# Altium footprint library TI - ADC.PcbLib: 213 footprints (part 5 of 14)
Each footprint in its own frame and in the unit in brackets; x right, y up, seen from the top. Pads: shape width x height; smd on the part's side, far side on the other; paste and mask are expansions set on the pad; w line width, h text height; cw(c..) or ccw(c..) is an arc to the next point about the centre after c.
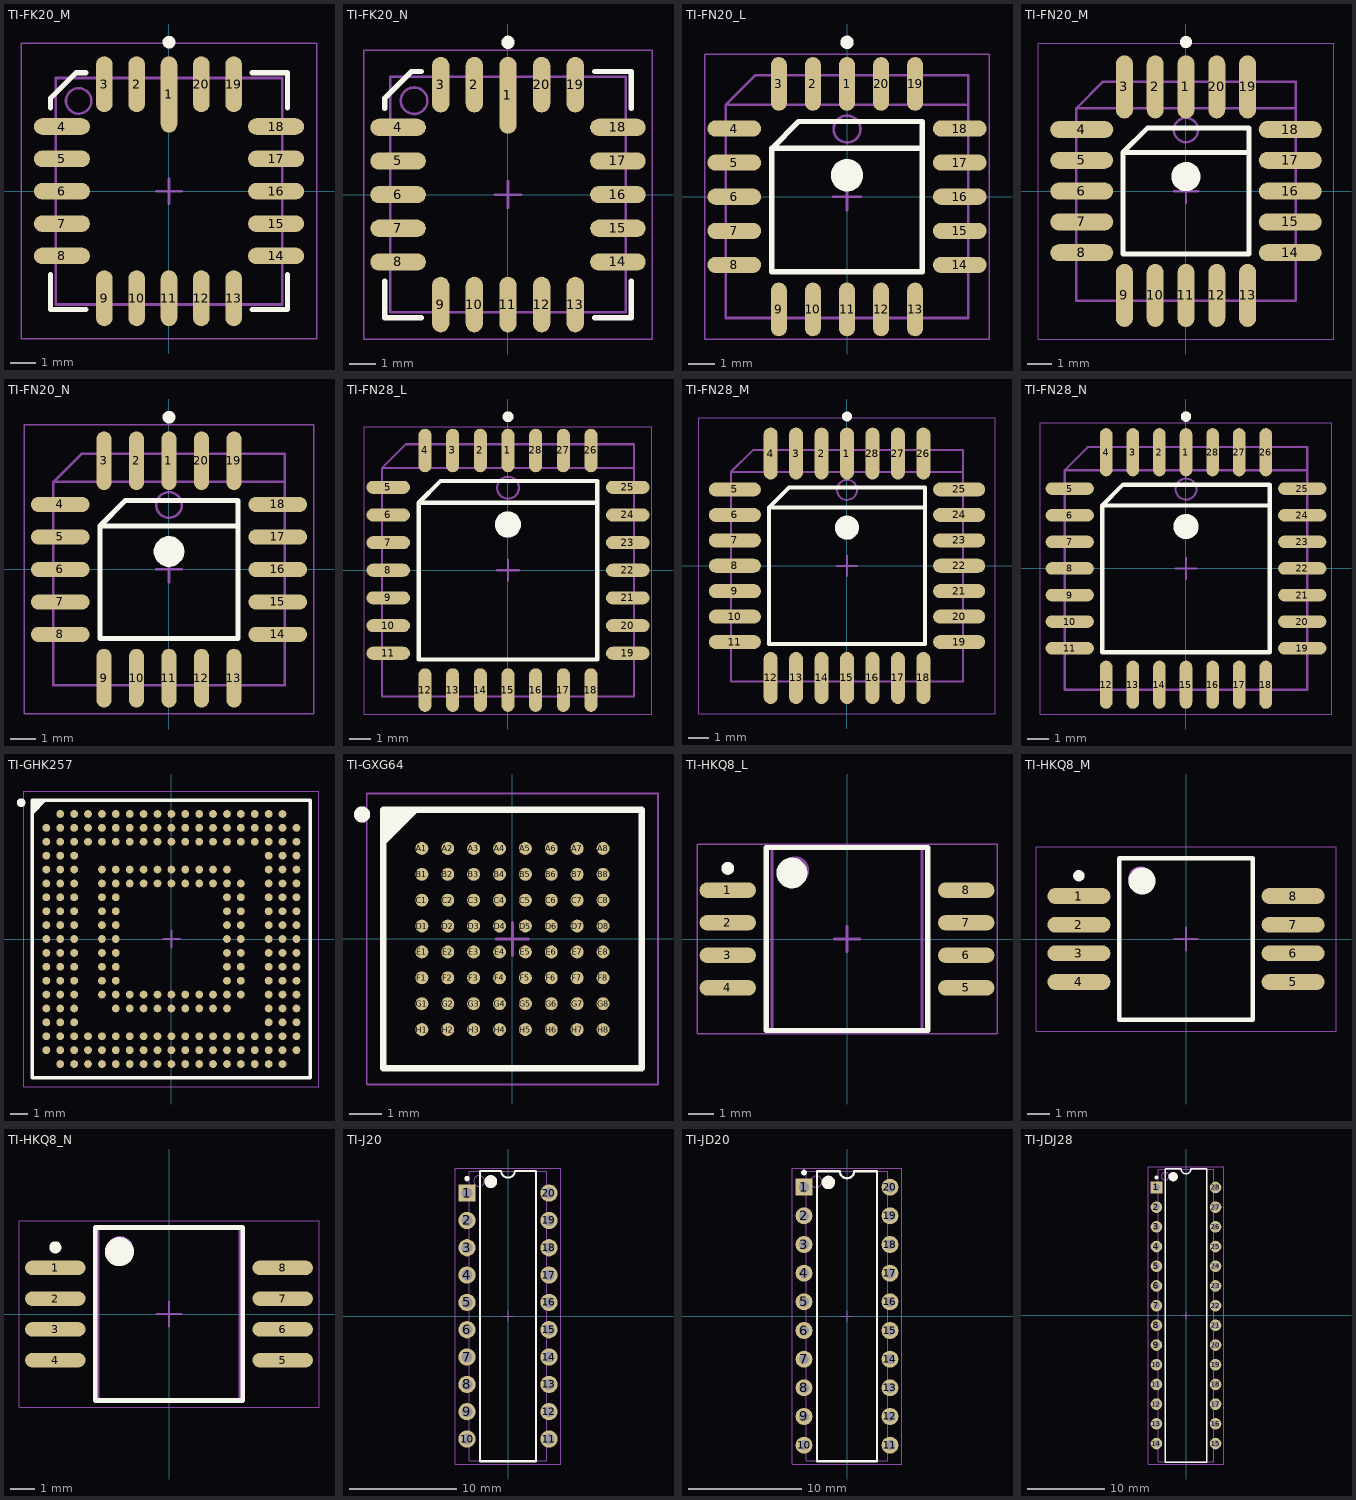
[diagram p4: the footprints below, top view; thin cyan lines are the x and y axes]

## TI-FK20_M [mm] "Leadless Chip Carrier, 20-Leads, Body 8.9x8.9mm, Pitch 1.27mm, IPC Low Density"
height 2.03
pads (20):
  oval 0.65x3 smd: 1(0,3.8)
  oval 0.65x2.2 smd: 2(-1.27,4.2) 3(-2.54,4.2) 9(-2.54,-4.2) 10(-1.27,-4.2) 11(0,-4.2) 12(1.27,-4.2) 13(2.54,-4.2) 19(2.54,4.2) 20(1.27,4.2)
  oval 2.2x0.65 smd: 4(-4.2,2.54) 5(-4.2,1.27) 6(-4.2,0) 7(-4.2,-1.27) 8(-4.2,-2.54) 14(4.2,-2.54) 15(4.2,-1.27) 16(4.2,0) 17(4.2,1.27) 18(4.2,2.54)
Top Overlay:
  circle w0.25: c0,5.85 r0.125
  lines w0.2: -4.65,-3.265 -4.65,-4.65 -3.265,-4.65 ; -4.65,3.265 -4.65,3.65 -3.65,4.65 -3.265,4.65 ; 3.265,-4.65 4.65,-4.65 4.65,-3.265 ; 3.265,4.65 4.65,4.65 4.65,3.265
Mechanical 13:
  circle w0.1: c-3.545,3.545 r0.5
  lines w0.1: -4.445,-4.445 -4.445,4.445 4.445,4.445 4.445,-4.445 -4.445,-4.445
Mechanical 15:
  lines w0.05: -5.8,-5.8 -5.8,5.8 5.8,5.8 5.8,-5.8 -5.8,-5.8
  lines w0.1: -0.5,0 0.5,0 ; 0,-0.5 0,0.5
3D body: height 2.03, standoff 0, extent -4.445,-4.445 4.445,4.445

## TI-FK20_N [mm] "Leadless Chip Carrier, 20-Leads, Body 8.9x8.9mm, Pitch 1.27mm, IPC Medium Density"
height 2.03
pads (20):
  oval 0.65x2.9 smd: 1(0,3.75)
  oval 0.65x2.1 smd: 2(-1.27,4.15) 3(-2.54,4.15) 9(-2.54,-4.15) 10(-1.27,-4.15) 11(0,-4.15) 12(1.27,-4.15) 13(2.54,-4.15) 19(2.54,4.15) 20(1.27,4.15)
  oval 2.1x0.65 smd: 4(-4.15,2.54) 5(-4.15,1.27) 6(-4.15,0) 7(-4.15,-1.27) 8(-4.15,-2.54) 14(4.15,-2.54) 15(4.15,-1.27) 16(4.15,0) 17(4.15,1.27) 18(4.15,2.54)
Top Overlay:
  circle w0.25: c0,5.75 r0.125
  lines w0.2: -4.65,-3.265 -4.65,-4.65 -3.265,-4.65 ; -4.65,3.265 -4.65,3.65 -3.65,4.65 -3.265,4.65 ; 3.265,-4.65 4.65,-4.65 4.65,-3.265 ; 3.265,4.65 4.65,4.65 4.65,3.265
Mechanical 13:
  circle w0.1: c-3.545,3.545 r0.5
  lines w0.1: -4.445,-4.445 -4.445,4.445 4.445,4.445 4.445,-4.445 -4.445,-4.445
Mechanical 15:
  lines w0.05: -5.45,-5.45 -5.45,5.45 5.45,5.45 5.45,-5.45 -5.45,-5.45
  lines w0.1: -0.5,0 0.5,0 ; 0,-0.5 0,0.5
3D body: height 2.03, standoff 0, extent -4.445,-4.445 4.445,4.445

## TI-FN20_L [mm] "PLCC, 20-Leads, Body 8.965x8.965mm, Pitch 1.27mm, IPC High Density"
height 4.58
pads (20):
  oval 0.6x2 smd: 1(0,4.2) 2(-1.27,4.2) 3(-2.54,4.2) 9(-2.54,-4.2) 10(-1.27,-4.2) 11(0,-4.2) 12(1.27,-4.2) 13(2.54,-4.2) 19(2.54,4.2) 20(1.27,4.2)
  oval 2x0.6 smd: 4(-4.2,2.54) 5(-4.2,1.27) 6(-4.2,0) 7(-4.2,-1.27) 8(-4.2,-2.54) 14(4.2,-2.54) 15(4.2,-1.27) 16(4.2,0) 17(4.2,1.27) 18(4.2,2.54)
Top Overlay:
  circle w0.6: c0,0.8 r0.3
  circle w0.25: c0,5.75 r0.125
  lines w0.2: 2.8,1.8 -2.8,1.8 ; -2.8,1.8 -2.8,-2.8 2.8,-2.8 2.8,2.8 -1.8,2.8 -2.8,1.8
Mechanical 13:
  circle w0.1: c0,2.52 r0.5
  lines w0.1: 4.52,3.42 -4.52,3.42 ; -4.52,3.42 -3.42,4.52 4.52,4.52 4.52,-4.52 -4.52,-4.52 -4.52,3.42
Mechanical 15:
  lines w0.05: -5.3,-5.3 5.3,-5.3 5.3,5.3 -5.3,5.3 -5.3,-5.3
  lines w0.1: -0.5,0 0.5,0 ; 0,-0.5 0,0.5
3D body: height 4.58, standoff 0.51, extent -4.52,-4.52 4.52,4.52

## TI-FN20_M [mm] "PLCC, 20-Leads, Body 8.965x8.965mm, Pitch 1.27mm, IPC Low Density"
height 4.58
pads (20):
  oval 0.7x2.6 smd: 1(0,4.3) 2(-1.27,4.3) 3(-2.54,4.3) 9(-2.54,-4.3) 10(-1.27,-4.3) 11(0,-4.3) 12(1.27,-4.3) 13(2.54,-4.3) 19(2.54,4.3) 20(1.27,4.3)
  oval 2.6x0.7 smd: 4(-4.3,2.54) 5(-4.3,1.27) 6(-4.3,0) 7(-4.3,-1.27) 8(-4.3,-2.54) 14(4.3,-2.54) 15(4.3,-1.27) 16(4.3,0) 17(4.3,1.27) 18(4.3,2.54)
Top Overlay:
  circle w0.6: c0,0.6 r0.3
  circle w0.25: c0,6.15 r0.125
  lines w0.2: 2.6,1.6 -2.6,1.6 ; -2.6,1.6 -2.6,-2.6 2.6,-2.6 2.6,2.6 -1.6,2.6 -2.6,1.6
Mechanical 13:
  circle w0.1: c0,2.52 r0.5
  lines w0.1: 4.52,3.42 -4.52,3.42 ; -4.52,3.42 -3.42,4.52 4.52,4.52 4.52,-4.52 -4.52,-4.52 -4.52,3.42
Mechanical 15:
  lines w0.05: -6.1,-6.1 6.1,-6.1 6.1,6.1 -6.1,6.1 -6.1,-6.1
  lines w0.1: -0.5,0 0.5,0 ; 0,-0.5 0,0.5
3D body: height 4.58, standoff 0.51, extent -4.52,-4.52 4.52,4.52

## TI-FN20_N [mm] "PLCC, 20-Leads, Body 8.965x8.965mm, Pitch 1.27mm, IPC Medium Density"
height 4.58
pads (20):
  oval 0.6x2.3 smd: 1(0,4.25) 2(-1.27,4.25) 3(-2.54,4.25) 9(-2.54,-4.25) 10(-1.27,-4.25) 11(0,-4.25) 12(1.27,-4.25) 13(2.54,-4.25) 19(2.54,4.25) 20(1.27,4.25)
  oval 2.3x0.6 smd: 4(-4.25,2.54) 5(-4.25,1.27) 6(-4.25,0) 7(-4.25,-1.27) 8(-4.25,-2.54) 14(4.25,-2.54) 15(4.25,-1.27) 16(4.25,0) 17(4.25,1.27) 18(4.25,2.54)
Top Overlay:
  circle w0.25: c0,5.95 r0.125
  circle w0.6: c0,0.7 r0.3
  lines w0.2: 2.7,1.7 -2.7,1.7 ; -2.7,1.7 -1.7,2.7 2.7,2.7 2.7,-2.7 -2.7,-2.7 -2.7,1.7
Mechanical 13:
  circle w0.1: c0,2.52 r0.5
  lines w0.1: 4.52,3.42 -4.52,3.42 ; -4.52,3.42 -4.52,-4.52 4.52,-4.52 4.52,4.52 -3.42,4.52 -4.52,3.42
Mechanical 15:
  lines w0.05: -5.65,-5.65 -5.65,5.65 5.65,5.65 5.65,-5.65 -5.65,-5.65
  lines w0.1: -0.5,0 0.5,0 ; 0,-0.5 0,0.5
3D body: height 4.58, standoff 0.51, extent -4.52,-4.52 4.52,4.52

## TI-FN28_L [mm] "PLCC, 28-Leads, Body 11.58x11.58mm, Pitch 1.27mm, IPC High Density"
height 4.58
pads (28):
  oval 0.6x2 smd: 1(0,5.5) 2(-1.27,5.5) 3(-2.54,5.5) 4(-3.81,5.5) 12(-3.81,-5.5) 13(-2.54,-5.5) 14(-1.27,-5.5) 15(0,-5.5) 16(1.27,-5.5) 17(2.54,-5.5) 18(3.81,-5.5) 26(3.81,5.5) 27(2.54,5.5) 28(1.27,5.5)
  oval 2x0.6 smd: 5(-5.5,3.81) 6(-5.5,2.54) 7(-5.5,1.27) 8(-5.5,0) 9(-5.5,-1.27) 10(-5.5,-2.54) 11(-5.5,-3.81) 19(5.5,-3.81) 20(5.5,-2.54) 21(5.5,-1.27) 22(5.5,0) 23(5.5,1.27) 24(5.5,2.54) 25(5.5,3.81)
Top Overlay:
  circle w0.6: c0,2.1 r0.3
  circle w0.25: c0,7.05 r0.125
  lines w0.2: 4.1,3.1 -4.1,3.1 ; -4.1,3.1 -4.1,-4.1 4.1,-4.1 4.1,4.1 -3.1,4.1 -4.1,3.1
Mechanical 13:
  circle w0.1: c0,3.79 r0.5
  lines w0.1: 5.79,4.69 -5.79,4.69 ; -5.79,4.69 -4.69,5.79 5.79,5.79 5.79,-5.79 -5.79,-5.79 -5.79,4.69
Mechanical 15:
  lines w0.05: -6.6,-6.6 6.6,-6.6 6.6,6.6 -6.6,6.6 -6.6,-6.6
  lines w0.1: -0.5,0 0.5,0 ; 0,-0.5 0,0.5
3D body: height 4.58, standoff 0.51, extent -5.79,-5.79 5.79,5.79

## TI-FN28_M [mm] "PLCC, 28-Leads, Body 11.58x11.58mm, Pitch 1.27mm, IPC Low Density"
height 4.58
pads (28):
  oval 0.7x2.6 smd: 1(0,5.6) 2(-1.27,5.6) 3(-2.54,5.6) 4(-3.81,5.6) 12(-3.81,-5.6) 13(-2.54,-5.6) 14(-1.27,-5.6) 15(0,-5.6) 16(1.27,-5.6) 17(2.54,-5.6) 18(3.81,-5.6) 26(3.81,5.6) 27(2.54,5.6) 28(1.27,5.6)
  oval 2.6x0.7 smd: 5(-5.6,3.81) 6(-5.6,2.54) 7(-5.6,1.27) 8(-5.6,0) 9(-5.6,-1.27) 10(-5.6,-2.54) 11(-5.6,-3.81) 19(5.6,-3.81) 20(5.6,-2.54) 21(5.6,-1.27) 22(5.6,0) 23(5.6,1.27) 24(5.6,2.54) 25(5.6,3.81)
Top Overlay:
  circle w0.6: c0,1.9 r0.3
  circle w0.25: c0,7.45 r0.125
  lines w0.2: 3.9,2.9 -3.9,2.9 ; -3.9,2.9 -3.9,-3.9 3.9,-3.9 3.9,3.9 -2.9,3.9 -3.9,2.9
Mechanical 13:
  circle w0.1: c0,3.79 r0.5
  lines w0.1: 5.79,4.69 -5.79,4.69 ; -5.79,4.69 -4.69,5.79 5.79,5.79 5.79,-5.79 -5.79,-5.79 -5.79,4.69
Mechanical 15:
  lines w0.05: -7.4,-7.4 7.4,-7.4 7.4,7.4 -7.4,7.4 -7.4,-7.4
  lines w0.1: -0.5,0 0.5,0 ; 0,-0.5 0,0.5
3D body: height 4.58, standoff 0.51, extent -5.79,-5.79 5.79,5.79

## TI-FN28_N [mm] "PLCC, 28-Leads, Body 11.58x11.58mm, Pitch 1.27mm, IPC Medium Density"
height 4.58
pads (28):
  oval 0.6x2.3 smd: 1(0,5.55) 2(-1.27,5.55) 3(-2.54,5.55) 4(-3.81,5.55) 12(-3.81,-5.55) 13(-2.54,-5.55) 14(-1.27,-5.55) 15(0,-5.55) 16(1.27,-5.55) 17(2.54,-5.55) 18(3.81,-5.55) 26(3.81,5.55) 27(2.54,5.55) 28(1.27,5.55)
  oval 2.3x0.6 smd: 5(-5.55,3.81) 6(-5.55,2.54) 7(-5.55,1.27) 8(-5.55,0) 9(-5.55,-1.27) 10(-5.55,-2.54) 11(-5.55,-3.81) 19(5.55,-3.81) 20(5.55,-2.54) 21(5.55,-1.27) 22(5.55,0) 23(5.55,1.27) 24(5.55,2.54) 25(5.55,3.81)
Top Overlay:
  circle w0.25: c0,7.25 r0.125
  circle w0.6: c0,2 r0.3
  lines w0.2: 4,3 -4,3 ; -4,3 -3,4 4,4 4,-4 -4,-4 -4,3
Mechanical 13:
  circle w0.1: c0,3.79 r0.5
  lines w0.1: 5.79,4.69 -5.79,4.69 ; -5.79,4.69 -5.79,-5.79 5.79,-5.79 5.79,5.79 -4.69,5.79 -5.79,4.69
Mechanical 15:
  lines w0.05: -6.95,-6.95 -6.95,6.95 6.95,6.95 6.95,-6.95 -6.95,-6.95
  lines w0.1: -0.5,0 0.5,0 ; 0,-0.5 0,0.5
3D body: height 4.58, standoff 0.51, extent -5.79,-5.79 5.79,5.79

## TI-GHK257 [mm] "BGA, 257-Balls, Body 16x16mm, Pitch 0.8mm"
height 1.4
pads (257):
  round 0.45 smd: A2(-6.4,7.2) A3(-5.6,7.2) A4(-4.8,7.2) A5(-4,7.2) A6(-3.2,7.2) A7(-2.4,7.2) A8(-1.6,7.2) A9(-0.8,7.2) A10(0,7.2) A11(0.8,7.2) A12(1.6,7.2) A13(2.4,7.2) A14(3.2,7.2) A15(4,7.2) A16(4.8,7.2) A17(5.6,7.2) A18(6.4,7.2) B1(-7.2,6.4) B2(-6.4,6.4) B3(-5.6,6.4) B4(-4.8,6.4) B5(-4,6.4) B6(-3.2,6.4) B7(-2.4,6.4) B8(-1.6,6.4) B9(-0.8,6.4) B10(0,6.4) B11(0.8,6.4) B12(1.6,6.4) B13(2.4,6.4) B14(3.2,6.4) B15(4,6.4) B16(4.8,6.4) B17(5.6,6.4) B18(6.4,6.4) B19(7.2,6.4) C1(-7.2,5.6) C2(-6.4,5.6) C3(-5.6,5.6) C4(-4.8,5.6) C5(-4,5.6) C6(-3.2,5.6) C7(-2.4,5.6) C8(-1.6,5.6) C9(-0.8,5.6) C10(0,5.6) C11(0.8,5.6) C12(1.6,5.6) C13(2.4,5.6) C14(3.2,5.6) C15(4,5.6) C16(4.8,5.6) C17(5.6,5.6) C18(6.4,5.6) C19(7.2,5.6) D1(-7.2,4.8) D2(-6.4,4.8) D3(-5.6,4.8) D17(5.6,4.8) D18(6.4,4.8) D19(7.2,4.8) E1(-7.2,4) E2(-6.4,4) E3(-5.6,4) E5(-4,4) E6(-3.2,4) E7(-2.4,4) E8(-1.6,4) E9(-0.8,4) E10(0,4) E11(0.8,4) E12(1.6,4) E13(2.4,4) E14(3.2,4) E17(5.6,4) E18(6.4,4) E19(7.2,4) F1(-7.2,3.2) F2(-6.4,3.2) F3(-5.6,3.2) F5(-4,3.2) F6(-3.2,3.2) F7(-2.4,3.2) F8(-1.6,3.2) F9(-0.8,3.2) F10(0,3.2) F11(0.8,3.2) F12(1.6,3.2) F13(2.4,3.2) F14(3.2,3.2) F15(4,3.2) F17(5.6,3.2) F18(6.4,3.2) F19(7.2,3.2) G1(-7.2,2.4) G2(-6.4,2.4) G3(-5.6,2.4) G5(-4,2.4) G6(-3.2,2.4) G14(3.2,2.4) G15(4,2.4) G17(5.6,2.4) G18(6.4,2.4) G19(7.2,2.4) H1(-7.2,1.6) H2(-6.4,1.6) H3(-5.6,1.6) H5(-4,1.6) H6(-3.2,1.6) H14(3.2,1.6) H15(4,1.6) H17(5.6,1.6) H18(6.4,1.6) H19(7.2,1.6) J1(-7.2,0.8) J2(-6.4,0.8) J3(-5.6,0.8) J5(-4,0.8) J6(-3.2,0.8) J14(3.2,0.8) J15(4,0.8) J17(5.6,0.8) J18(6.4,0.8) J19(7.2,0.8) K1(-7.2,0) K2(-6.4,0) K3(-5.6,0) K5(-4,0) K6(-3.2,0) K14(3.2,0) K15(4,0) K17(5.6,0) K18(6.4,0) K19(7.2,0) L1(-7.2,-0.8) L2(-6.4,-0.8) L3(-5.6,-0.8) L5(-4,-0.8) L6(-3.2,-0.8) L14(3.2,-0.8) L15(4,-0.8) L17(5.6,-0.8) L18(6.4,-0.8) L19(7.2,-0.8) M1(-7.2,-1.6) M2(-6.4,-1.6) M3(-5.6,-1.6) M5(-4,-1.6) M6(-3.2,-1.6) M14(3.2,-1.6) M15(4,-1.6) M17(5.6,-1.6) M18(6.4,-1.6) M19(7.2,-1.6) N1(-7.2,-2.4) N2(-6.4,-2.4) N3(-5.6,-2.4) N5(-4,-2.4) N6(-3.2,-2.4) N14(3.2,-2.4) N15(4,-2.4) N17(5.6,-2.4) N18(6.4,-2.4) N19(7.2,-2.4) P1(-7.2,-3.2) P2(-6.4,-3.2) P3(-5.6,-3.2) P5(-4,-3.2) P6(-3.2,-3.2) P7(-2.4,-3.2) P8(-1.6,-3.2) P9(-0.8,-3.2) P10(0,-3.2) P11(0.8,-3.2) P12(1.6,-3.2) P13(2.4,-3.2) P14(3.2,-3.2) P15(4,-3.2) P17(5.6,-3.2) P18(6.4,-3.2) P19(7.2,-3.2) R1(-7.2,-4) R2(-6.4,-4) R3(-5.6,-4) R6(-3.2,-4) R7(-2.4,-4) R8(-1.6,-4) R9(-0.8,-4) R10(0,-4) R11(0.8,-4) R12(1.6,-4) R13(2.4,-4) R14(3.2,-4) R17(5.6,-4) R18(6.4,-4) R19(7.2,-4) T1(-7.2,-4.8) T2(-6.4,-4.8) T3(-5.6,-4.8) T17(5.6,-4.8) T18(6.4,-4.8) T19(7.2,-4.8) U1(-7.2,-5.6) U2(-6.4,-5.6) U3(-5.6,-5.6) U4(-4.8,-5.6) U5(-4,-5.6) U6(-3.2,-5.6) U7(-2.4,-5.6) U8(-1.6,-5.6) U9(-0.8,-5.6) U10(0,-5.6) U11(0.8,-5.6) U12(1.6,-5.6) U13(2.4,-5.6) U14(3.2,-5.6) U15(4,-5.6) U16(4.8,-5.6) U17(5.6,-5.6) U18(6.4,-5.6) U19(7.2,-5.6) V1(-7.2,-6.4) V2(-6.4,-6.4) V3(-5.6,-6.4) V4(-4.8,-6.4) V5(-4,-6.4) V6(-3.2,-6.4) V7(-2.4,-6.4) V8(-1.6,-6.4) V9(-0.8,-6.4) V10(0,-6.4) V11(0.8,-6.4) V12(1.6,-6.4) V13(2.4,-6.4) V14(3.2,-6.4) V15(4,-6.4) V16(4.8,-6.4) V17(5.6,-6.4) V18(6.4,-6.4) V19(7.2,-6.4) W2(-6.4,-7.2) W3(-5.6,-7.2) W4(-4.8,-7.2) W5(-4,-7.2) W6(-3.2,-7.2) W7(-2.4,-7.2) W8(-1.6,-7.2) W9(-0.8,-7.2) W10(0,-7.2) W11(0.8,-7.2) W12(1.6,-7.2) W13(2.4,-7.2) W14(3.2,-7.2) W15(4,-7.2) W16(4.8,-7.2) W17(5.6,-7.2) W18(6.4,-7.2)
Top Overlay:
  circle w0.25: c-8.65,7.85 r0.125
  region: -7.284,8 -8,7.284 -8,8
  lines w0.2: -8,7.284 -7.284,8 ; -8,-8 8,-8 8,8 -8,8 -8,-8
Mechanical 13:
  lines w0.1: -8,-8 8,-8 8,8 -8,8 -8,-8
Mechanical 15:
  lines w0.05: -8.5,-8.5 8.5,-8.5 8.5,8.5 -8.5,8.5 -8.5,-8.5
  lines w0.1: -0.5,0 0.5,0 ; 0,-0.5 0,0.5
3D body: height 1.4, standoff 0.35, extent -8,-8 8,8

## TI-GXG64 [mm] "BGA, 64-Balls, Body 8x8mm, Pitch 0.8mm"
height 1.45
pads (64):
  round 0.4 smd: A1(-2.8,2.8) A2(-2,2.8) A3(-1.2,2.8) A4(-0.4,2.8) A5(0.4,2.8) A6(1.2,2.8) A7(2,2.8) A8(2.8,2.8) B1(-2.8,2) B2(-2,2) B3(-1.2,2) B4(-0.4,2) B5(0.4,2) B6(1.2,2) B7(2,2) B8(2.8,2) C1(-2.8,1.2) C2(-2,1.2) C3(-1.2,1.2) C4(-0.4,1.2) C5(0.4,1.2) C6(1.2,1.2) C7(2,1.2) C8(2.8,1.2) D1(-2.8,0.4) D2(-2,0.4) D3(-1.2,0.4) D4(-0.4,0.4) D5(0.4,0.4) D6(1.2,0.4) D7(2,0.4) D8(2.8,0.4) E1(-2.8,-0.4) E2(-2,-0.4) E3(-1.2,-0.4) E4(-0.4,-0.4) E5(0.4,-0.4) E6(1.2,-0.4) E7(2,-0.4) E8(2.8,-0.4) F1(-2.8,-1.2) F2(-2,-1.2) F3(-1.2,-1.2) F4(-0.4,-1.2) F5(0.4,-1.2) F6(1.2,-1.2) F7(2,-1.2) F8(2.8,-1.2) G1(-2.8,-2) G2(-2,-2) G3(-1.2,-2) G4(-0.4,-2) G5(0.4,-2) G6(1.2,-2) G7(2,-2) G8(2.8,-2) H1(-2.8,-2.8) H2(-2,-2.8) H3(-1.2,-2.8) H4(-0.4,-2.8) H5(0.4,-2.8) H6(1.2,-2.8) H7(2,-2.8) H8(2.8,-2.8)
Top Overlay:
  circle w0.25: c-4.65,3.85 r0.125
  region: -3,4 -4,3 -4,4
  lines w0.2: -4,3 -3,4 ; -4,-4 4,-4 4,4 -4,4 -4,-4
Mechanical 13:
  lines w0.1: -4,-4 4,-4 4,4 -4,4 -4,-4
Mechanical 15:
  lines w0.05: -4.5,-4.5 4.5,-4.5 4.5,4.5 -4.5,4.5 -4.5,-4.5
  lines w0.1: -0.5,0 0.5,0 ; 0,-0.5 0,0.5
3D body: height 1.45, standoff 0.31, extent -4,-4 4,4

## TI-HKQ8_L [mm] "CFP, 8-Leads, Body 6.9x5.65mm, Pitch 1.27mm, IPC High Density"
height 2.8
pads (8):
  oval 2.2x0.6 smd: 1(-4.65,1.905) 2(-4.65,0.635) 3(-4.65,-0.635) 4(-4.65,-1.905) 5(4.65,-1.905) 6(4.65,-0.635) 7(4.65,0.635) 8(4.65,1.905)
Top Overlay:
  circle w0.25: c-4.65,2.755 r0.125
  circle w0.6: c-2.15,2.575 r0.3
  lines w0.2: -3.15,-3.575 3.15,-3.575 3.15,3.575 -3.15,3.575 -3.15,-3.575
Mechanical 13:
  circle w0.1: c-2.025,2.675 r0.5
  lines w0.1: -2.925,-3.575 2.925,-3.575 2.925,3.575 -2.925,3.575 -2.925,-3.575
Mechanical 15:
  lines w0.05: -5.85,-3.7 5.85,-3.7 5.85,3.7 -5.85,3.7 -5.85,-3.7
  lines w0.1: -0.5,0 0.5,0 ; 0,-0.5 0,0.5
3D body: height 2.8, standoff 0.15, extent -2.925,-3.575 2.925,3.575

## TI-HKQ8_M [mm] "CFP, 8-Leads, Body 6.9x5.65mm, Pitch 1.27mm, IPC Low Density"
height 2.8
pads (8):
  oval 2.8x0.7 smd: 1(-4.75,1.905) 2(-4.75,0.635) 3(-4.75,-0.635) 4(-4.75,-1.905) 5(4.75,-1.905) 6(4.75,-0.635) 7(4.75,0.635) 8(4.75,1.905)
Top Overlay:
  circle w0.25: c-4.75,2.805 r0.125
  circle w0.6: c-1.95,2.575 r0.3
  lines w0.2: -2.95,-3.575 2.95,-3.575 2.95,3.575 -2.95,3.575 -2.95,-3.575
Mechanical 13:
  circle w0.1: c-2.025,2.675 r0.5
  lines w0.1: -2.925,-3.575 2.925,-3.575 2.925,3.575 -2.925,3.575 -2.925,-3.575
Mechanical 15:
  lines w0.05: -6.65,-4.1 6.65,-4.1 6.65,4.1 -6.65,4.1 -6.65,-4.1
  lines w0.1: -0.5,0 0.5,0 ; 0,-0.5 0,0.5
3D body: height 2.8, standoff 0.15, extent -2.925,-3.575 2.925,3.575

## TI-HKQ8_N [mm] "CFP, 8-Leads, Body 6.9x5.65mm, Pitch 1.27mm, IPC Medium Density"
height 2.8
pads (8):
  oval 2.5x0.6 smd: 1(-4.7,1.905) 2(-4.7,0.635) 3(-4.7,-0.635) 4(-4.7,-1.905) 5(4.7,-1.905) 6(4.7,-0.635) 7(4.7,0.635) 8(4.7,1.905)
Top Overlay:
  circle w0.25: c-4.7,2.755 r0.125
  circle w0.6: c-2.05,2.575 r0.3
  lines w0.2: -3.05,-3.575 3.05,-3.575 3.05,3.575 -3.05,3.575 -3.05,-3.575
Mechanical 13:
  circle w0.1: c-2.025,2.675 r0.5
  lines w0.1: -2.925,-3.575 2.925,-3.575 2.925,3.575 -2.925,3.575 -2.925,-3.575
Mechanical 15:
  lines w0.05: -6.2,-3.85 6.2,-3.85 6.2,3.85 -6.2,3.85 -6.2,-3.85
  lines w0.1: -0.5,0 0.5,0 ; 0,-0.5 0,0.5
3D body: height 2.8, standoff 0.15, extent -2.925,-3.575 2.925,3.575

## TI-J20 [mm] "DIP, 20-Leads, Body 26.92x6.92mm, Pitch 2.54mm"
height 5.08
pads (20):
  rect 1.6x1.6 hole 1: 1(-3.81,11.43)
  round 1.6 hole 1: 2(-3.81,8.89) 3(-3.81,6.35) 4(-3.81,3.81) 5(-3.81,1.27) 6(-3.81,-1.27) 7(-3.81,-3.81) 8(-3.81,-6.35) 9(-3.81,-8.89) 10(-3.81,-11.43) 11(3.81,-11.43) 12(3.81,-8.89) 13(3.81,-6.35) 14(3.81,-3.81) 15(3.81,-1.27) 16(3.81,1.27) 17(3.81,3.81) 18(3.81,6.35) 19(3.81,8.89) 20(3.81,11.43)
Top Overlay:
  circle w0.25: c-3.81,12.78 r0.125
  circle w0.6: c-1.6,12.5 r0.3
  lines w0.2: -2.6,-13.5 -2.6,13.5 -0.635,13.5 ccw(c0,13.5) 0.635,13.5 2.6,13.5 2.6,-13.5 -2.6,-13.5
Mechanical 13:
  circle w0.1: c-2.7,12.55 r0.5
  lines w0.1: -3.6,-13.45 -3.6,13.45 3.6,13.45 3.6,-13.45 -3.6,-13.45
Mechanical 15:
  lines w0.05: -4.9,-13.75 -4.9,13.75 4.9,13.75 4.9,-13.75 -4.9,-13.75
  lines w0.1: -0.5,0 0.5,0 ; 0,-0.5 0,0.5
3D body: height 2.58, standoff 0, extent -3.96,10.88 -3.66,11.98
3D body: height 2.88, standoff 2.58, extent -3.96,10.88 -3.6,11.98
3D body: height 0, standoff -1.6, extent -3.96,11.03 -3.66,11.83
3D body: height 2.58, standoff 0, extent -3.96,8.34 -3.66,9.44
3D body: height 2.88, standoff 2.58, extent -3.96,8.34 -3.6,9.44
3D body: height 0, standoff -1.6, extent -3.96,8.49 -3.66,9.29
3D body: height 2.58, standoff 0, extent -3.96,5.8 -3.66,6.9
3D body: height 2.88, standoff 2.58, extent -3.96,5.8 -3.6,6.9
3D body: height 0, standoff -1.6, extent -3.96,5.95 -3.66,6.75
3D body: height 2.58, standoff 0, extent -3.96,3.26 -3.66,4.36
3D body: height 2.88, standoff 2.58, extent -3.96,3.26 -3.6,4.36
3D body: height 0, standoff -1.6, extent -3.96,3.41 -3.66,4.21
3D body: height 2.58, standoff 0, extent -3.96,0.72 -3.66,1.82
3D body: height 2.88, standoff 2.58, extent -3.96,0.72 -3.6,1.82
3D body: height 0, standoff -1.6, extent -3.96,0.87 -3.66,1.67
3D body: height 2.58, standoff 0, extent -3.96,-1.82 -3.66,-0.72
3D body: height 2.88, standoff 2.58, extent -3.96,-1.82 -3.6,-0.72
3D body: height 0, standoff -1.6, extent -3.96,-1.67 -3.66,-0.87
3D body: height 2.58, standoff 0, extent -3.96,-4.36 -3.66,-3.26
3D body: height 2.88, standoff 2.58, extent -3.96,-4.36 -3.6,-3.26
3D body: height 0, standoff -1.6, extent -3.96,-4.21 -3.66,-3.41
3D body: height 2.58, standoff 0, extent -3.96,-6.9 -3.66,-5.8
3D body: height 2.88, standoff 2.58, extent -3.96,-6.9 -3.6,-5.8
3D body: height 0, standoff -1.6, extent -3.96,-6.75 -3.66,-5.95
3D body: height 2.58, standoff 0, extent -3.96,-9.44 -3.66,-8.34
3D body: height 2.88, standoff 2.58, extent -3.96,-9.44 -3.6,-8.34
3D body: height 0, standoff -1.6, extent -3.96,-9.29 -3.66,-8.49
3D body: height 2.58, standoff 0, extent -3.96,-11.98 -3.66,-10.88
3D body: height 2.88, standoff 2.58, extent -3.96,-11.98 -3.6,-10.88
3D body: height 0, standoff -1.6, extent -3.96,-11.83 -3.66,-11.03
3D body: height 2.58, standoff 0, extent 3.66,-11.98 3.96,-10.88
3D body: height 2.88, standoff 2.58, extent 3.6,-11.98 3.96,-10.88
3D body: height 0, standoff -1.6, extent 3.66,-11.83 3.96,-11.03
3D body: height 2.58, standoff 0, extent 3.66,-9.44 3.96,-8.34
3D body: height 2.88, standoff 2.58, extent 3.6,-9.44 3.96,-8.34
3D body: height 0, standoff -1.6, extent 3.66,-9.29 3.96,-8.49
3D body: height 2.58, standoff 0, extent 3.66,-6.9 3.96,-5.8
3D body: height 2.88, standoff 2.58, extent 3.6,-6.9 3.96,-5.8
3D body: height 0, standoff -1.6, extent 3.66,-6.75 3.96,-5.95
3D body: height 2.58, standoff 0, extent 3.66,-4.36 3.96,-3.26
3D body: height 2.88, standoff 2.58, extent 3.6,-4.36 3.96,-3.26
3D body: height 0, standoff -1.6, extent 3.66,-4.21 3.96,-3.41
3D body: height 2.58, standoff 0, extent 3.66,-1.82 3.96,-0.72
3D body: height 2.88, standoff 2.58, extent 3.6,-1.82 3.96,-0.72
3D body: height 0, standoff -1.6, extent 3.66,-1.67 3.96,-0.87
3D body: height 2.58, standoff 0, extent 3.66,0.72 3.96,1.82
3D body: height 2.88, standoff 2.58, extent 3.6,0.72 3.96,1.82
3D body: height 0, standoff -1.6, extent 3.66,0.87 3.96,1.67
3D body: height 2.58, standoff 0, extent 3.66,3.26 3.96,4.36
3D body: height 2.88, standoff 2.58, extent 3.6,3.26 3.96,4.36
3D body: height 0, standoff -1.6, extent 3.66,3.41 3.96,4.21
3D body: height 2.58, standoff 0, extent 3.66,5.8 3.96,6.9
3D body: height 2.88, standoff 2.58, extent 3.6,5.8 3.96,6.9
3D body: height 0, standoff -1.6, extent 3.66,5.95 3.96,6.75
3D body: height 2.58, standoff 0, extent 3.66,8.34 3.96,9.44
3D body: height 2.88, standoff 2.58, extent 3.6,8.34 3.96,9.44
3D body: height 0, standoff -1.6, extent 3.66,8.49 3.96,9.29
3D body: height 2.58, standoff 0, extent 3.66,10.88 3.96,11.98
3D body: height 2.88, standoff 2.58, extent 3.6,10.88 3.96,11.98
3D body: height 0, standoff -1.6, extent 3.66,11.03 3.96,11.83
3D body: height 5.08, standoff 0.38, extent -3.6,-13.45 3.6,13.45

## TI-JD20 [mm] "DIP, 20-Leads, Body 25.65x7.37mm, Pitch 2.54mm"
height 4.45
pads (20):
  rect 1.5x1.5 hole 0.9: 1(-3.81,11.43)
  round 1.5 hole 0.9: 2(-3.81,8.89) 3(-3.81,6.35) 4(-3.81,3.81) 5(-3.81,1.27) 6(-3.81,-1.27) 7(-3.81,-3.81) 8(-3.81,-6.35) 9(-3.81,-8.89) 10(-3.81,-11.43) 11(3.81,-11.43) 12(3.81,-8.89) 13(3.81,-6.35) 14(3.81,-3.81) 15(3.81,-1.27) 16(3.81,1.27) 17(3.81,3.81) 18(3.81,6.35) 19(3.81,8.89) 20(3.81,11.43)
Top Overlay:
  circle w0.25: c-3.81,12.73 r0.125
  circle w0.6: c-1.65,11.85 r0.3
  lines w0.2: -2.65,-12.85 -2.65,12.85 -0.635,12.85 ccw(c0,12.85) 0.635,12.85 2.65,12.85 2.65,-12.85 -2.65,-12.85
Mechanical 13:
  circle w0.1: c-2.7,11.925 r0.5
  lines w0.1: -3.6,-12.825 -3.6,12.825 3.6,12.825 3.6,-12.825 -3.6,-12.825
Mechanical 15:
  lines w0.05: -4.85,-13.1 -4.85,13.1 4.85,13.1 4.85,-13.1 -4.85,-13.1
  lines w0.1: -0.5,0 0.5,0 ; 0,-0.5 0,0.5
3D body: height 2.35, standoff 0, extent -3.945,10.93 -3.675,11.93
3D body: height 2.62, standoff 2.35, extent -3.945,10.93 -3.6,11.93
3D body: height 0, standoff -1.6, extent -3.945,11.07 -3.675,11.79
3D body: height 2.35, standoff 0, extent -3.945,8.39 -3.675,9.39
3D body: height 2.62, standoff 2.35, extent -3.945,8.39 -3.6,9.39
3D body: height 0, standoff -1.6, extent -3.945,8.53 -3.675,9.25
3D body: height 2.35, standoff 0, extent -3.945,5.85 -3.675,6.85
3D body: height 2.62, standoff 2.35, extent -3.945,5.85 -3.6,6.85
3D body: height 0, standoff -1.6, extent -3.945,5.99 -3.675,6.71
3D body: height 2.35, standoff 0, extent -3.945,3.31 -3.675,4.31
3D body: height 2.62, standoff 2.35, extent -3.945,3.31 -3.6,4.31
3D body: height 0, standoff -1.6, extent -3.945,3.45 -3.675,4.17
3D body: height 2.35, standoff 0, extent -3.945,0.77 -3.675,1.77
3D body: height 2.62, standoff 2.35, extent -3.945,0.77 -3.6,1.77
3D body: height 0, standoff -1.6, extent -3.945,0.91 -3.675,1.63
3D body: height 2.35, standoff 0, extent -3.945,-1.77 -3.675,-0.77
3D body: height 2.62, standoff 2.35, extent -3.945,-1.77 -3.6,-0.77
3D body: height 0, standoff -1.6, extent -3.945,-1.63 -3.675,-0.91
3D body: height 2.35, standoff 0, extent -3.945,-4.31 -3.675,-3.31
3D body: height 2.62, standoff 2.35, extent -3.945,-4.31 -3.6,-3.31
3D body: height 0, standoff -1.6, extent -3.945,-4.17 -3.675,-3.45
3D body: height 2.35, standoff 0, extent -3.945,-6.85 -3.675,-5.85
3D body: height 2.62, standoff 2.35, extent -3.945,-6.85 -3.6,-5.85
3D body: height 0, standoff -1.6, extent -3.945,-6.71 -3.675,-5.99
3D body: height 2.35, standoff 0, extent -3.945,-9.39 -3.675,-8.39
3D body: height 2.62, standoff 2.35, extent -3.945,-9.39 -3.6,-8.39
3D body: height 0, standoff -1.6, extent -3.945,-9.25 -3.675,-8.53
3D body: height 2.35, standoff 0, extent -3.945,-11.93 -3.675,-10.93
3D body: height 2.62, standoff 2.35, extent -3.945,-11.93 -3.6,-10.93
3D body: height 0, standoff -1.6, extent -3.945,-11.79 -3.675,-11.07
3D body: height 2.35, standoff 0, extent 3.675,-11.93 3.945,-10.93
3D body: height 2.62, standoff 2.35, extent 3.6,-11.93 3.945,-10.93
3D body: height 0, standoff -1.6, extent 3.675,-11.79 3.945,-11.07
3D body: height 2.35, standoff 0, extent 3.675,-9.39 3.945,-8.39
3D body: height 2.62, standoff 2.35, extent 3.6,-9.39 3.945,-8.39
3D body: height 0, standoff -1.6, extent 3.675,-9.25 3.945,-8.53
3D body: height 2.35, standoff 0, extent 3.675,-6.85 3.945,-5.85
3D body: height 2.62, standoff 2.35, extent 3.6,-6.85 3.945,-5.85
3D body: height 0, standoff -1.6, extent 3.675,-6.71 3.945,-5.99
3D body: height 2.35, standoff 0, extent 3.675,-4.31 3.945,-3.31
3D body: height 2.62, standoff 2.35, extent 3.6,-4.31 3.945,-3.31
3D body: height 0, standoff -1.6, extent 3.675,-4.17 3.945,-3.45
3D body: height 2.35, standoff 0, extent 3.675,-1.77 3.945,-0.77
3D body: height 2.62, standoff 2.35, extent 3.6,-1.77 3.945,-0.77
3D body: height 0, standoff -1.6, extent 3.675,-1.63 3.945,-0.91
3D body: height 2.35, standoff 0, extent 3.675,0.77 3.945,1.77
3D body: height 2.62, standoff 2.35, extent 3.6,0.77 3.945,1.77
3D body: height 0, standoff -1.6, extent 3.675,0.91 3.945,1.63
3D body: height 2.35, standoff 0, extent 3.675,3.31 3.945,4.31
3D body: height 2.62, standoff 2.35, extent 3.6,3.31 3.945,4.31
3D body: height 0, standoff -1.6, extent 3.675,3.45 3.945,4.17
3D body: height 2.35, standoff 0, extent 3.675,5.85 3.945,6.85
3D body: height 2.62, standoff 2.35, extent 3.6,5.85 3.945,6.85
3D body: height 0, standoff -1.6, extent 3.675,5.99 3.945,6.71
3D body: height 2.35, standoff 0, extent 3.675,8.39 3.945,9.39
3D body: height 2.62, standoff 2.35, extent 3.6,8.39 3.945,9.39
3D body: height 0, standoff -1.6, extent 3.675,8.53 3.945,9.25
3D body: height 2.35, standoff 0, extent 3.675,10.93 3.945,11.93
3D body: height 2.62, standoff 2.35, extent 3.6,10.93 3.945,11.93
3D body: height 0, standoff -1.6, extent 3.675,11.07 3.945,11.79
3D body: height 4.45, standoff 0.51, extent -3.6,-12.825 3.6,12.825

## TI-JDJ28 [mm] "DIP, 28-Leads, Body 35.56x7.49mm, Pitch 2.54mm"
height 4.45
pads (28):
  rect 1.5x1.5 hole 0.9: 1(-3.81,16.51)
  round 1.5 hole 0.9: 2(-3.81,13.97) 3(-3.81,11.43) 4(-3.81,8.89) 5(-3.81,6.35) 6(-3.81,3.81) 7(-3.81,1.27) 8(-3.81,-1.27) 9(-3.81,-3.81) 10(-3.81,-6.35) 11(-3.81,-8.89) 12(-3.81,-11.43) 13(-3.81,-13.97) 14(-3.81,-16.51) 15(3.81,-16.51) 16(3.81,-13.97) 17(3.81,-11.43) 18(3.81,-8.89) 19(3.81,-6.35) 20(3.81,-3.81) 21(3.81,-1.27) 22(3.81,1.27) 23(3.81,3.81) 24(3.81,6.35) 25(3.81,8.89) 26(3.81,11.43) 27(3.81,13.97) 28(3.81,16.51)
Top Overlay:
  circle w0.6: c-1.65,17.9 r0.3
  circle w0.25: c-3.81,17.81 r0.125
  lines w0.2: -2.65,-18.9 2.65,-18.9 2.65,18.9 0.635,18.9 cw(c0,18.9) -0.635,18.9 -2.65,18.9 -2.65,-18.9
Mechanical 13:
  circle w0.1: c-2.7,17.95 r0.5
  lines w0.1: -3.6,-18.85 3.6,-18.85 3.6,18.85 -3.6,18.85 -3.6,-18.85
Mechanical 15:
  lines w0.05: -4.85,-19.15 4.85,-19.15 4.85,19.15 -4.85,19.15 -4.85,-19.15
  lines w0.1: -0.5,0 0.5,0 ; 0,-0.5 0,0.5
3D body: height 4.45, standoff 0.64, extent -3.6,-18.85 3.6,18.85
3D body: height 0, standoff -1.6, extent 3.675,16.15 3.945,16.87
3D body: height 2.68, standoff 2.41, extent 3.6,16.01 3.945,17.01
3D body: height 2.41, standoff 0, extent 3.675,16.01 3.945,17.01
3D body: height 0, standoff -1.6, extent 3.675,13.61 3.945,14.33
3D body: height 2.68, standoff 2.41, extent 3.6,13.47 3.945,14.47
3D body: height 2.41, standoff 0, extent 3.675,13.47 3.945,14.47
3D body: height 0, standoff -1.6, extent 3.675,11.07 3.945,11.79
3D body: height 2.68, standoff 2.41, extent 3.6,10.93 3.945,11.93
3D body: height 2.41, standoff 0, extent 3.675,10.93 3.945,11.93
3D body: height 0, standoff -1.6, extent 3.675,8.53 3.945,9.25
3D body: height 2.68, standoff 2.41, extent 3.6,8.39 3.945,9.39
3D body: height 2.41, standoff 0, extent 3.675,8.39 3.945,9.39
3D body: height 0, standoff -1.6, extent 3.675,5.99 3.945,6.71
3D body: height 2.68, standoff 2.41, extent 3.6,5.85 3.945,6.85
3D body: height 2.41, standoff 0, extent 3.675,5.85 3.945,6.85
3D body: height 0, standoff -1.6, extent 3.675,3.45 3.945,4.17
3D body: height 2.68, standoff 2.41, extent 3.6,3.31 3.945,4.31
3D body: height 2.41, standoff 0, extent 3.675,3.31 3.945,4.31
3D body: height 0, standoff -1.6, extent 3.675,0.91 3.945,1.63
3D body: height 2.68, standoff 2.41, extent 3.6,0.77 3.945,1.77
3D body: height 2.41, standoff 0, extent 3.675,0.77 3.945,1.77
3D body: height 0, standoff -1.6, extent 3.675,-1.63 3.945,-0.91
3D body: height 2.68, standoff 2.41, extent 3.6,-1.77 3.945,-0.77
3D body: height 2.41, standoff 0, extent 3.675,-1.77 3.945,-0.77
3D body: height 0, standoff -1.6, extent 3.675,-4.17 3.945,-3.45
3D body: height 2.68, standoff 2.41, extent 3.6,-4.31 3.945,-3.31
3D body: height 2.41, standoff 0, extent 3.675,-4.31 3.945,-3.31
3D body: height 0, standoff -1.6, extent 3.675,-6.71 3.945,-5.99
3D body: height 2.68, standoff 2.41, extent 3.6,-6.85 3.945,-5.85
3D body: height 2.41, standoff 0, extent 3.675,-6.85 3.945,-5.85
3D body: height 0, standoff -1.6, extent 3.675,-9.25 3.945,-8.53
3D body: height 2.68, standoff 2.41, extent 3.6,-9.39 3.945,-8.39
3D body: height 2.41, standoff 0, extent 3.675,-9.39 3.945,-8.39
3D body: height 0, standoff -1.6, extent 3.675,-11.79 3.945,-11.07
3D body: height 2.68, standoff 2.41, extent 3.6,-11.93 3.945,-10.93
3D body: height 2.41, standoff 0, extent 3.675,-11.93 3.945,-10.93
3D body: height 0, standoff -1.6, extent 3.675,-14.33 3.945,-13.61
3D body: height 2.68, standoff 2.41, extent 3.6,-14.47 3.945,-13.47
3D body: height 2.41, standoff 0, extent 3.675,-14.47 3.945,-13.47
3D body: height 0, standoff -1.6, extent 3.675,-16.87 3.945,-16.15
3D body: height 2.68, standoff 2.41, extent 3.6,-17.01 3.945,-16.01
3D body: height 2.41, standoff 0, extent 3.675,-17.01 3.945,-16.01
3D body: height 0, standoff -1.6, extent -3.945,-16.87 -3.675,-16.15
3D body: height 2.68, standoff 2.41, extent -3.945,-17.01 -3.6,-16.01
3D body: height 2.41, standoff 0, extent -3.945,-17.01 -3.675,-16.01
3D body: height 0, standoff -1.6, extent -3.945,-14.33 -3.675,-13.61
3D body: height 2.68, standoff 2.41, extent -3.945,-14.47 -3.6,-13.47
3D body: height 2.41, standoff 0, extent -3.945,-14.47 -3.675,-13.47
3D body: height 0, standoff -1.6, extent -3.945,-11.79 -3.675,-11.07
3D body: height 2.68, standoff 2.41, extent -3.945,-11.93 -3.6,-10.93
3D body: height 2.41, standoff 0, extent -3.945,-11.93 -3.675,-10.93
3D body: height 0, standoff -1.6, extent -3.945,-9.25 -3.675,-8.53
3D body: height 2.68, standoff 2.41, extent -3.945,-9.39 -3.6,-8.39
3D body: height 2.41, standoff 0, extent -3.945,-9.39 -3.675,-8.39
3D body: height 0, standoff -1.6, extent -3.945,-6.71 -3.675,-5.99
3D body: height 2.68, standoff 2.41, extent -3.945,-6.85 -3.6,-5.85
3D body: height 2.41, standoff 0, extent -3.945,-6.85 -3.675,-5.85
3D body: height 0, standoff -1.6, extent -3.945,-4.17 -3.675,-3.45
3D body: height 2.68, standoff 2.41, extent -3.945,-4.31 -3.6,-3.31
3D body: height 2.41, standoff 0, extent -3.945,-4.31 -3.675,-3.31
3D body: height 0, standoff -1.6, extent -3.945,-1.63 -3.675,-0.91
3D body: height 2.68, standoff 2.41, extent -3.945,-1.77 -3.6,-0.77
3D body: height 2.41, standoff 0, extent -3.945,-1.77 -3.675,-0.77
3D body: height 0, standoff -1.6, extent -3.945,0.91 -3.675,1.63
3D body: height 2.68, standoff 2.41, extent -3.945,0.77 -3.6,1.77
3D body: height 2.41, standoff 0, extent -3.945,0.77 -3.675,1.77
3D body: height 0, standoff -1.6, extent -3.945,3.45 -3.675,4.17
3D body: height 2.68, standoff 2.41, extent -3.945,3.31 -3.6,4.31
3D body: height 2.41, standoff 0, extent -3.945,3.31 -3.675,4.31
3D body: height 0, standoff -1.6, extent -3.945,5.99 -3.675,6.71
3D body: height 2.68, standoff 2.41, extent -3.945,5.85 -3.6,6.85
3D body: height 2.41, standoff 0, extent -3.945,5.85 -3.675,6.85
3D body: height 0, standoff -1.6, extent -3.945,8.53 -3.675,9.25
3D body: height 2.68, standoff 2.41, extent -3.945,8.39 -3.6,9.39
3D body: height 2.41, standoff 0, extent -3.945,8.39 -3.675,9.39
3D body: height 0, standoff -1.6, extent -3.945,11.07 -3.675,11.79
3D body: height 2.68, standoff 2.41, extent -3.945,10.93 -3.6,11.93
3D body: height 2.41, standoff 0, extent -3.945,10.93 -3.675,11.93
3D body: height 0, standoff -1.6, extent -3.945,13.61 -3.675,14.33
3D body: height 2.68, standoff 2.41, extent -3.945,13.47 -3.6,14.47
3D body: height 2.41, standoff 0, extent -3.945,13.47 -3.675,14.47
3D body: height 0, standoff -1.6, extent -3.945,16.15 -3.675,16.87
3D body: height 2.68, standoff 2.41, extent -3.945,16.01 -3.6,17.01
3D body: height 2.41, standoff 0, extent -3.945,16.01 -3.675,17.01